# Altium schematic symbol library Schlib1.SchLib: 7 symbols
Pins are listed as number, name and electrical type; pins without a type are passive.

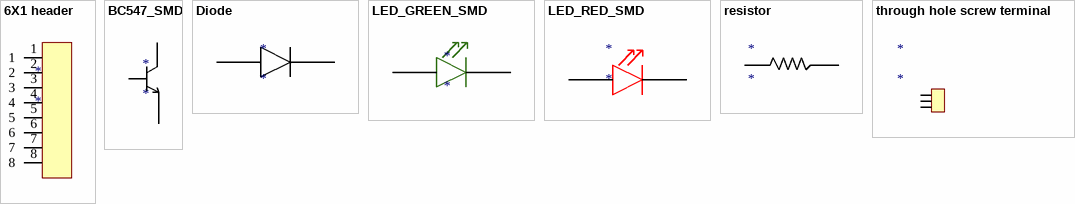
[diagram p0: symbols 6X1 header to through hole screw terminal]

## 6X1 header
designator *
footprint 6X1 pin header - duplicate
pins: 1, 2, 3, 4, 5, 6, 7, 8

## BC547_SMD
designator *
footprint transistor BC547 RCC1206 e3
pins: 1 C, 2 B, 3 E

## Diode
designator *
footprint Diode-1N4007
pins: A, K

## LED_GREEN_SMD
designator *
footprint LSM0805452V-Green
pins: A, K

## LED_RED_SMD
designator *
footprint LSM0805 Series green
pins: A, K

## resistor
designator *
footprint Resistor-RCC1206 e3
pins: 1, 2

## through hole screw terminal
designator *
footprint 3X1 screw terminal
pins: 1, 2, 3